# Altium footprint library PCB1.PcbLib: 21 footprints (part 2 of 2)
Each footprint in its own frame and in the unit in brackets; x right, y up, seen from the top. Pads: shape width x height; smd on the part's side, far side on the other; paste and mask are expansions set on the pad; w line width, h text height; cw(c..) or ccw(c..) is an arc to the next point about the centre after c.
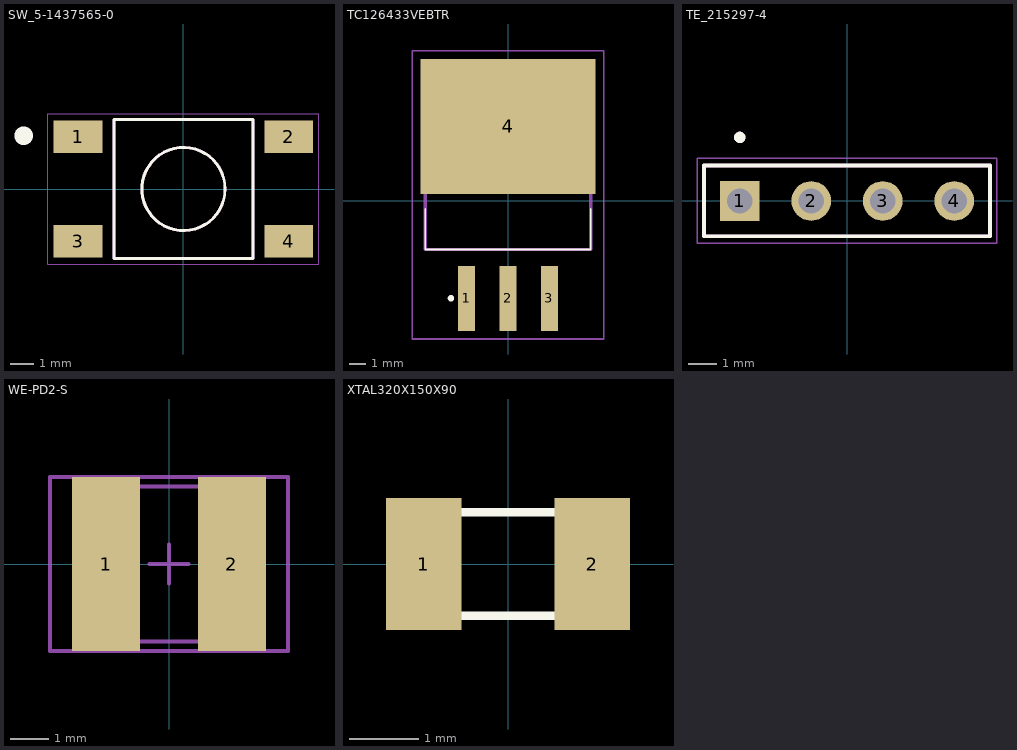
[diagram p1: the footprints below, top view; thin cyan lines are the x and y axes]

## SW_5-1437565-0 [mm]
pads (4):
  rect 2.1x1.4 smd: 1(-4.55,2.25) 2(4.55,2.25) 3(-4.55,-2.25) 4(4.55,-2.25)
Top Overlay:
  circle w0.4: c-6.9,2.3 r0.2
  circle w0.127: c0,0 r1.796
  lines w0.127: -3,-3 3,-3 3,3 -3,3 -3,-3
Mechanical 13:
  circle w0.127: c0,0 r1.796
  lines w0.127: -3,-3 3,-3 3,3 -3,3 -3,-3
Mechanical 15:
  lines w0.05: -5.85,-3.25 -5.85,3.25 5.85,3.25 5.85,-3.25 -5.85,-3.25
3D body "step_temp.STEP": height 7.26, standoff 0, extent -3,-5 3,5

## TC126433VEBTR [mm]
pads (4):
  rect 1.041x3.988 smd: 1(-2.54,-6.009) 2(0,-6.009) 3(2.54,-6.009)
  rect 10.744x8.306 smd: 4(0,4.545)
Top Overlay:
  lines w0.1: -5.08,-0.508 -5.08,-3.008 5.08,-3.008 5.08,-0.508
  lines w0.2: -3.5,-6.1 cw(c-3.5,-6) -3.5,-5.9 cw(c-3.5,-6) -3.5,-6.1
Mechanical 13:
  lines w0.2: -5.08,-3.008 5.08,-3.008 5.08,6.008 -5.08,6.008 -5.08,-3.008
Mechanical 15:
  lines w0.1: -5.872,-8.502 5.872,-8.502 5.872,9.198 -5.872,9.198 -5.872,-8.502

## TE_215297-4 [mm]
pads (4):
  rect 1.408x1.408 hole 0.9: 1(-3.81,0)
  round 1.408 hole 0.9: 2(-1.27,0) 3(1.27,0) 4(3.81,0)
Top Overlay:
  circle w0.2: c-3.81,2.26 r0.1
  lines w0.127: -5.08,-1.26 -5.08,1.26 5.08,1.26 5.08,-1.26 -5.08,-1.26
Mechanical 13:
  circle w0.2: c-3.81,2.26 r0.1
  lines w0.127: -5.08,-1.26 -5.08,1.26 5.08,1.26 5.08,-1.26 -5.08,-1.26
Mechanical 15:
  lines w0.05: -5.33,-1.51 -5.33,1.51 5.33,1.51 5.33,-1.51 -5.33,-1.51
3D body "step_temp.STEP": height 1.26, standoff -1.26, extent -5.08,0 5.08,10

## WE-PD2-S [mm] "SMD Inductor, 2-Leads, Body 4.5 x 4.0 mm"
height 3.5
pads (2):
  rect 1.75x4.5 smd: 1(-1.625,0) 2(1.625,0)
Mechanical 13:
  lines w0.1: -2.25,-2 -2.25,2 2.25,2 2.25,-2 -2.25,-2
Mechanical 15:
  lines w0.1: -0.5,0 0.5,0 ; 0,-0.5 0,0.5 ; -3.075,-2.25 -3.075,2.25 3.075,2.25 3.075,-2.25 -3.075,-2.25
3D body "744773014.stp": height 3.17, standoff -0.01, extent -2.231,-2 2.231,2

## XTAL320X150X90 [mil]
pads (2):
  rect 43x75 smd: 1(-48,0) 2(48,0)
Top Overlay:
  lines w5: -63,-29.5 -63,29.5 63,29.5 63,-29.5 -63,-29.5
3D body "step_temp.STEP": height 35.43, standoff 0, extent -62.99,-29.53 62.99,29.53